# Altium footprint library 2019-09-15_19-49-04.PcbLib: 3 footprints
Each footprint in its own frame and in the unit in brackets; x right, y up, seen from the top. Pads: shape width x height; smd on the part's side, far side on the other; paste and mask are expansions set on the pad; w line width, h text height; cw(c..) or ccw(c..) is an arc to the next point about the centre after c.
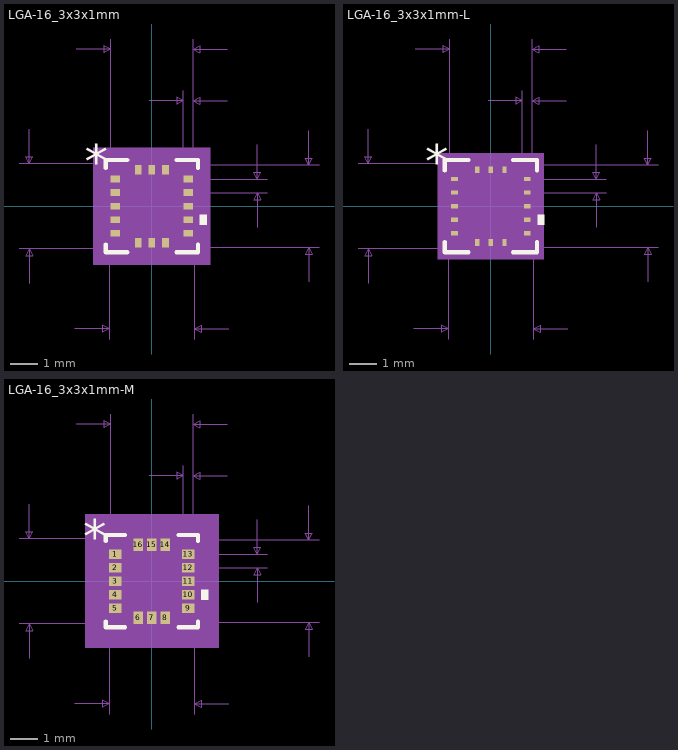
[diagram p0: the footprints below, top view; thin cyan lines are the x and y axes]

## LGA-16_3x3x1mm [mil]
pads (16):
  rect 14x10 smd paste+0 mask+0: 1(-53,39.37) 2(-53,19.68) 3(-53,0) 4(-53,-19.68) 5(-53,-39.37) 9(53,-39.37) 10(53,-19.68) 11(53,0) 12(53,19.68) 13(53,39.37)
  rect 10x14 smd paste+0 mask+0: 6(-19.68,-53) 7(0,-53) 8(19.68,-53) 14(19.68,53) 15(0,53) 16(-19.68,53)
Top Overlay:
  region: 70,-12.19 80,-12.19 80,-27.18 70,-27.18
  lines w6: -67,-55.44 -67,-67 -35.76,-67 ; -67,55.44 -67,67 -35.76,67 ; 35.76,-67 67,-67 67,-55.44 ; 35.76,67 67,67 67,55.44
  text "*" at -97.5,39.21 h50
Mechanical 5:
  region: 85,-85 -85,-85 -85,85 85,85
Mechanical 7:
  lines w1: -193,-62 62,-62 ; -193,62 62,62 62,-193 ; -178,-112 -178,-62 ; -178,112 -178,62 ; -112,-178 -62,-178 ; -110,228 -60,228 ; -62,-193 -62,62 ; -60,39.37 -60,243 ; -4,153 46,153 ; 19.68,-60 243,-60 ; 19.68,60 243,60 ; 46,39.37 46,168 ; 53,19.68 168,19.68 ; 53,39.37 168,39.37 ; 60,168 60,39.37 60,243 ; 110,153 60,153 ; 110,228 60,228 ; 112,-178 62,-178 ; 153,-30.32 153,19.68 ; 153,89.37 153,39.37 ; 228,-110 228,-60 ; 228,110 228,60 ; -178,-62 -183,-72 -173,-72 -178,-62 ; -178,62 -183,72 -173,72 -178,62 ; -62,-178 -72,-173 -72,-183 -62,-178 ; -60,228 -70,233 -70,223 -60,228 ; 46,153 36,158 36,148 46,153 ; 60,153 70,158 70,148 60,153 ; 60,228 70,233 70,223 60,228 ; 62,-178 72,-173 72,-183 62,-178 ; 153,19.68 148,9.69 158,9.69 153,19.68 ; 153,39.37 148,49.37 158,49.37 153,39.37 ; 228,-60 223,-70 233,-70 228,-60 ; 228,60 223,70 233,70 228,60
  text "Default Padstyle: RX10Y14D0T" at -350,-328 h50
  text "Alt 1 Padstyle: OX60Y90D30P" at -337.5,-508 h50
  text "Alt 2 Padstyle: OX90Y60D30P" at -337.5,-568 h50
  text "0.02in/0.5mm" at 173,17.03 h25
  text "0.014in/0.356mm" at -40.75,173 h25
  text "0.12in/3.048mm" at -87.5,248 h25
  text "0.12in/3.048mm" at 248,-12.5 h25
  text "0.124in/3.15mm" at -373,-12.5 h25
  text "0.124in/3.15mm" at -87.5,-223 h25
Mechanical 13:
  lines w1: -62,12 -12,62 ; -62,-62 62,-62 62,62 -62,62 -62,-62
  text "*" at -58.5,39.21 h50
Mechanical 15:
  region: -34.69,-72 -72,-72 -72,-54.37 -72,54.37 -72,72 -34.69,72 34.69,72 72,72 72,54.37 72,-54.37 72,-72 34.69,-72
  lines w6: -72,-54.37 -72,-72 -34.69,-72 ; -72,-54.37 -72,-54.37 ; -72,-54.37 -72,54.37 ; -72,54.37 -72,54.37 ; -72,54.37 -72,72 -34.69,72 ; -34.69,-72 -34.69,-72 ; -34.69,-72 34.69,-72 ; -34.69,72 -34.69,72 ; -34.69,72 34.69,72 ; 34.69,-72 34.69,-72 ; 34.69,-72 72,-72 72,-54.37 ; 34.69,72 34.69,72 ; 34.69,72 72,72 72,54.37 ; 72,-54.37 72,-54.37 ; 72,-54.37 72,54.37 ; 72,54.37 72,54.37
3D body: height 10, standoff 0, extent 0,0 10,10

## LGA-16_3x3x1mm-L [mil]
pads (16):
  rect 10x6 smd paste+0 mask+0: 1(-53,39.37) 2(-53,19.68) 3(-53,0) 4(-53,-19.68) 5(-53,-39.37) 9(53,-39.37) 10(53,-19.68) 11(53,0) 12(53,19.68) 13(53,39.37)
  rect 6x10 smd paste+0 mask+0: 6(-19.68,-53) 7(0,-53) 8(19.68,-53) 14(19.68,53) 15(0,53) 16(-19.68,53)
Top Overlay:
  region: 68,-12.19 78,-12.19 78,-27.18 68,-27.18
  lines w6: -67,-51.89 -67,-67 -32.2,-67 ; -67,51.89 -67,67 -32.2,67 ; 32.2,-67 67,-67 67,-51.89 ; 32.2,67 67,67 67,51.89
  text "*" at -95.5,39.21 h50
Mechanical 5:
  region: 77,-77 -77,-77 -77,77 77,77
Mechanical 7:
  lines w1: -193,-62 62,-62 ; -193,62 62,62 62,-193 ; -178,-112 -178,-62 ; -178,112 -178,62 ; -112,-178 -62,-178 ; -110,228 -60,228 ; -62,-193 -62,62 ; -60,39.37 -60,243 ; -4,153 46,153 ; 19.68,-60 243,-60 ; 19.68,60 243,60 ; 46,39.37 46,168 ; 53,19.68 168,19.68 ; 53,39.37 168,39.37 ; 60,168 60,39.37 60,243 ; 110,153 60,153 ; 110,228 60,228 ; 112,-178 62,-178 ; 153,-30.32 153,19.68 ; 153,89.37 153,39.37 ; 228,-110 228,-60 ; 228,110 228,60 ; -178,-62 -183,-72 -173,-72 -178,-62 ; -178,62 -183,72 -173,72 -178,62 ; -62,-178 -72,-173 -72,-183 -62,-178 ; -60,228 -70,233 -70,223 -60,228 ; 46,153 36,158 36,148 46,153 ; 60,153 70,158 70,148 60,153 ; 60,228 70,233 70,223 60,228 ; 62,-178 72,-173 72,-183 62,-178 ; 153,19.68 148,9.69 158,9.69 153,19.68 ; 153,39.37 148,49.37 158,49.37 153,39.37 ; 228,-60 223,-70 233,-70 228,-60 ; 228,60 223,70 233,70 228,60
  text "Default Padstyle: RX6Y10D0T" at -337.5,-326 h50
  text "Alt 1 Padstyle: OX60Y90D30P" at -337.5,-506 h50
  text "Alt 2 Padstyle: OX90Y60D30P" at -337.5,-566 h50
  text "0.02in/0.5mm" at 173,17.03 h25
  text "0.014in/0.356mm" at -40.75,173 h25
  text "0.12in/3.048mm" at -87.5,248 h25
  text "0.12in/3.048mm" at 248,-12.5 h25
  text "0.124in/3.15mm" at -373,-12.5 h25
  text "0.124in/3.15mm" at -87.5,-223 h25
Mechanical 13:
  lines w1: -62,12 -12,62 ; -62,-62 62,-62 62,62 -62,62 -62,-62
  text "*" at -60.5,39.21 h50
Mechanical 15:
  region: -28.68,-66 -66,-66 -66,-48.37 -66,48.37 -66,66 -28.68,66 28.68,66 66,66 66,48.37 66,-48.37 66,-66 28.68,-66
  lines w6: -66,-48.37 -66,-66 -28.68,-66 ; -66,-48.37 -66,-48.37 ; -66,-48.37 -66,48.37 ; -66,48.37 -66,48.37 ; -66,48.37 -66,66 -28.68,66 ; -28.68,-66 -28.68,-66 ; -28.68,-66 28.68,-66 ; -28.68,66 -28.68,66 ; -28.68,66 28.68,66 ; 28.68,-66 28.68,-66 ; 28.68,-66 66,-66 66,-48.37 ; 28.68,66 28.68,66 ; 28.68,66 66,66 66,48.37 ; 66,-48.37 66,-48.37 ; 66,-48.37 66,48.37 ; 66,48.37 66,48.37
3D body: height 10, standoff 0, extent 0,0 10,10

## LGA-16_3x3x1mm-M [mil]
pads (16):
  rect 18x14 smd paste+0 mask+0: 1(-53,39.37) 2(-53,19.68) 3(-53,0) 4(-53,-19.68) 5(-53,-39.37) 9(53,-39.37) 10(53,-19.68) 11(53,0) 12(53,19.68) 13(53,39.37)
  rect 14x18 smd paste+0 mask+0: 6(-19.68,-53) 7(0,-53) 8(19.68,-53) 14(19.68,53) 15(0,53) 16(-19.68,53)
Top Overlay:
  region: 72,-12.19 82,-12.19 82,-27.18 72,-27.18
  lines w6: -67,-58.48 -67,-67 -38.79,-67 ; -67,58.48 -67,67 -38.79,67 ; 38.79,-67 67,-67 67,-58.48 ; 38.79,67 67,67 67,58.48
  text "*" at -99.5,39.21 h50
Mechanical 5:
  region: 97,-97 -97,-97 -97,97 97,97
Mechanical 7:
  lines w1: -193,-62 62,-62 ; -193,62 62,62 62,-193 ; -178,-112 -178,-62 ; -178,112 -178,62 ; -112,-178 -62,-178 ; -110,228 -60,228 ; -62,-193 -62,62 ; -60,39.37 -60,243 ; -4,153 46,153 ; 19.68,-60 243,-60 ; 19.68,60 243,60 ; 46,39.37 46,168 ; 53,19.68 168,19.68 ; 53,39.37 168,39.37 ; 60,168 60,39.37 60,243 ; 110,153 60,153 ; 110,228 60,228 ; 112,-178 62,-178 ; 153,-30.32 153,19.68 ; 153,89.37 153,39.37 ; 228,-110 228,-60 ; 228,110 228,60 ; -178,-62 -183,-72 -173,-72 -178,-62 ; -178,62 -183,72 -173,72 -178,62 ; -62,-178 -72,-173 -72,-183 -62,-178 ; -60,228 -70,233 -70,223 -60,228 ; 46,153 36,158 36,148 46,153 ; 60,153 70,158 70,148 60,153 ; 60,228 70,233 70,223 60,228 ; 62,-178 72,-173 72,-183 62,-178 ; 153,19.68 148,9.69 158,9.69 153,19.68 ; 153,39.37 148,49.37 158,49.37 153,39.37 ; 228,-60 223,-70 233,-70 228,-60 ; 228,60 223,70 233,70 228,60
  text "Default Padstyle: RX14Y18D0T" at -350,-330 h50
  text "Alt 1 Padstyle: OX60Y90D30P" at -337.5,-510 h50
  text "Alt 2 Padstyle: OX90Y60D30P" at -337.5,-570 h50
  text "0.02in/0.5mm" at 173,17.03 h25
  text "0.014in/0.356mm" at -40.75,173 h25
  text "0.12in/3.048mm" at -87.5,248 h25
  text "0.12in/3.048mm" at 248,-12.5 h25
  text "0.124in/3.15mm" at -373,-12.5 h25
  text "0.124in/3.15mm" at -87.5,-223 h25
Mechanical 13:
  lines w1: -62,12 -12,62 ; -62,-62 62,-62 62,62 -62,62 -62,-62
  text "*" at -56.5,39.21 h50
Mechanical 15:
  region: -44.69,-82 -82,-82 -82,-64.37 -82,64.37 -82,82 -44.69,82 44.69,82 82,82 82,64.37 82,-64.37 82,-82 44.69,-82
  lines w6: -82,-64.37 -82,-82 -44.69,-82 ; -82,-64.37 -82,-64.37 ; -82,-64.37 -82,64.37 ; -82,64.37 -82,64.37 ; -82,64.37 -82,82 -44.69,82 ; -44.69,-82 -44.69,-82 ; -44.69,-82 44.69,-82 ; -44.69,82 -44.69,82 ; -44.69,82 44.69,82 ; 44.69,-82 44.69,-82 ; 44.69,-82 82,-82 82,-64.37 ; 44.69,82 44.69,82 ; 44.69,82 82,82 82,64.37 ; 82,-64.37 82,-64.37 ; 82,-64.37 82,64.37 ; 82,64.37 82,64.37
3D body: height 10, standoff 0, extent 0,0 10,10